# Altium footprint library inductors.PcbLib: 86 footprints (part 4 of 6)
Each footprint in its own frame and in the unit in brackets; x right, y up, seen from the top. Pads: shape width x height; smd on the part's side, far side on the other; paste and mask are expansions set on the pad; w line width, h text height; cw(c..) or ccw(c..) is an arc to the next point about the centre after c.
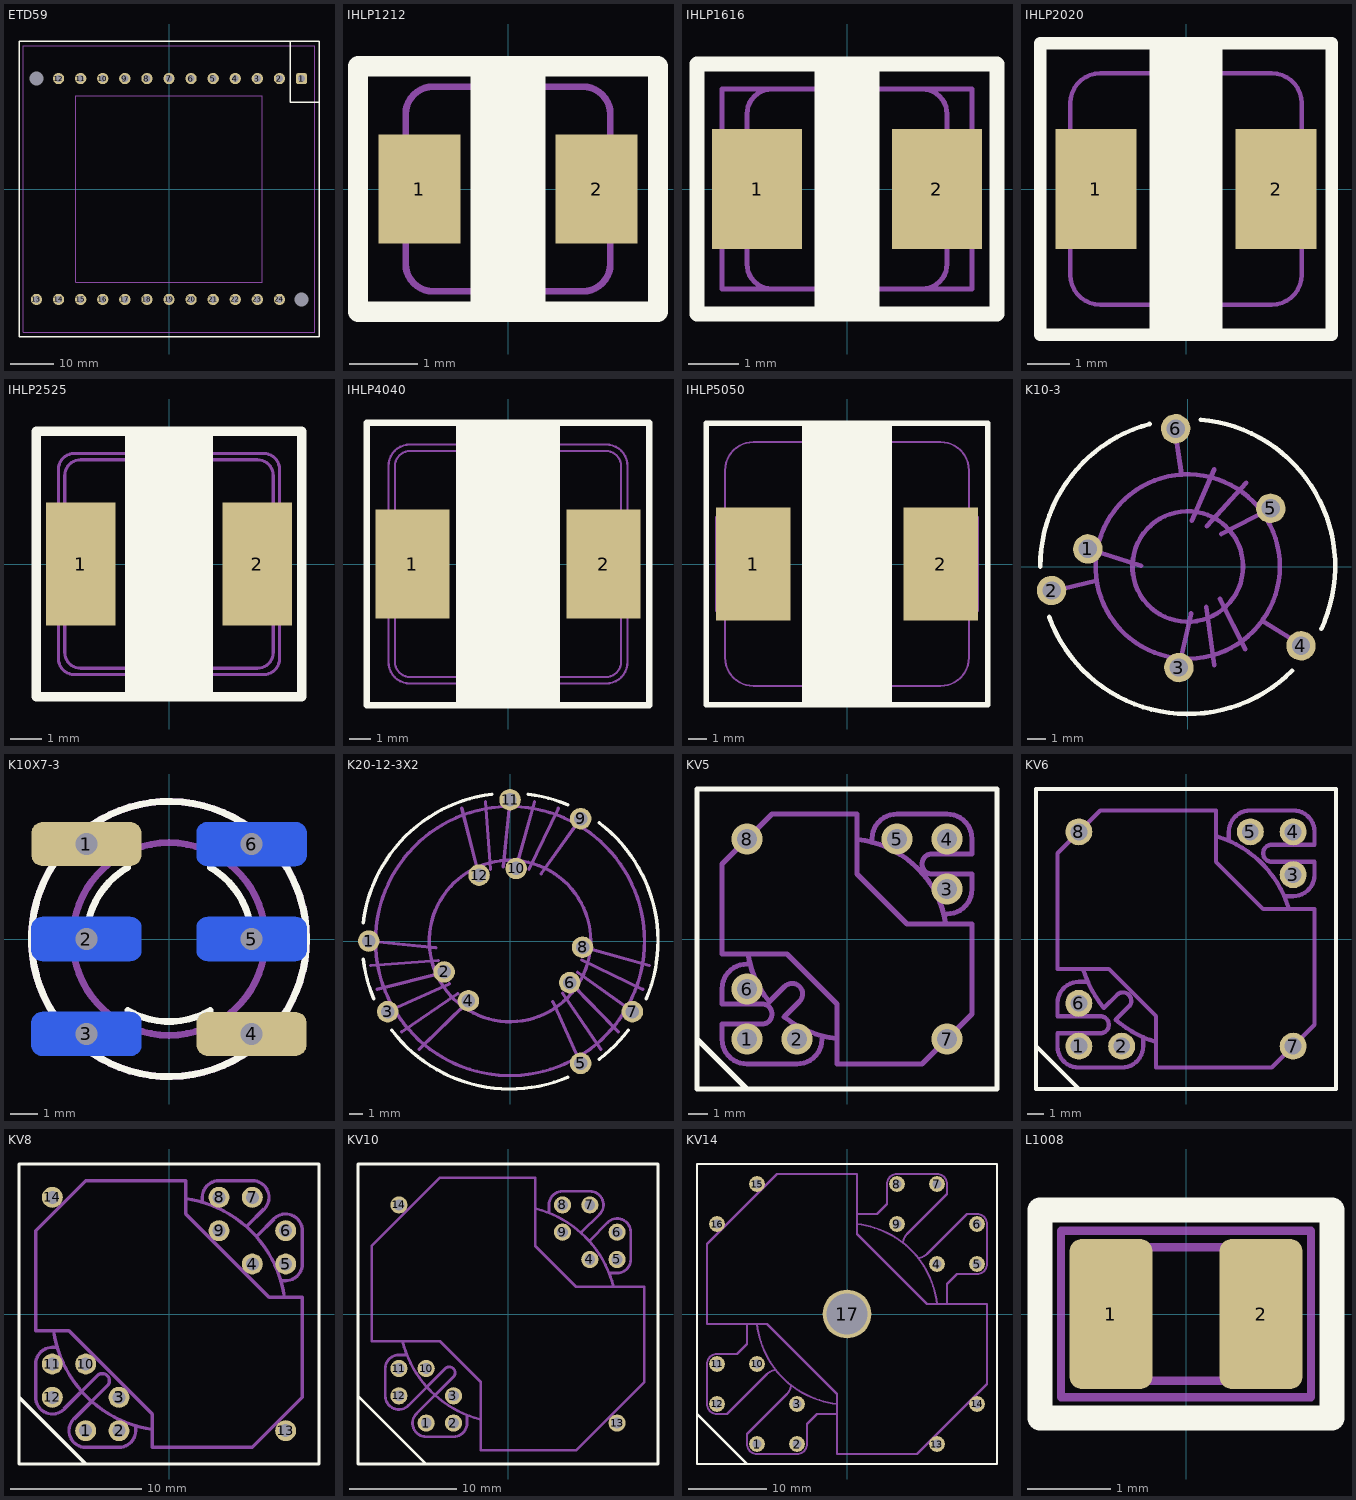
[diagram p3: the footprints below, top view; thin cyan lines are the x and y axes]

## ETD59 [mm]
height 50
pads (26):
  rrect50% 2.6x2.6 hole 1.6: 1(30.48,25.4)
  round 2.6 hole 1.6: 2(25.4,25.4) 3(20.32,25.4) 4(15.24,25.4) 5(10.16,25.4) 6(5.08,25.4) 7(0,25.4) 8(-5.08,25.4) 9(-10.16,25.4) 10(-15.24,25.4) 11(-20.32,25.4) 12(-25.4,25.4) 13(-30.48,-25.4) 14(-25.4,-25.4) 15(-20.32,-25.4) 16(-15.24,-25.4) 17(-10.16,-25.4) 18(-5.08,-25.4) 19(0,-25.4) 20(5.08,-25.4) 21(10.16,-25.4) 22(15.24,-25.4) 23(20.32,-25.4) 24(25.4,-25.4)
  round 0 hole 3.2 unplated mask+1.9: 25(-30.48,25.4) 26(30.48,-25.4)
Top Overlay:
  lines w0.3: 27.94,34 27.94,20 34.5,20 ; -34.5,-34 34.5,-34 34.5,34 -34.5,34 -34.5,-34
Mechanical 1:
  lines w0.1: -33.5,-33 33.5,-33 33.5,33 -33.5,33 -33.5,-33 ; -21.5,-21.5 21.5,-21.5 21.5,21.5 -21.5,21.5 -21.5,-21.5
3D body: height 49.99, standoff 7.01, extent -21.476,-21.5 21.5,21.5
3D body: height 40, standoff 15, extent -33.5,-33 33.5,33
3D body: height 15, standoff 5, extent -33.5,-33 33.5,-21.5
3D body: height 5.5, standoff -4.5, extent -30.976,-25.899 -29.98,-24.901
3D body: height 5, standoff 0.1, extent -33.5,-33 -32,-29
3D body: height 5, standoff 0.1, extent 28,-28 33,-21.5
3D body: height 5.5, standoff -4.5, extent -25.896,-25.899 -24.9,-24.901
3D body: height 5.5, standoff -4.5, extent -20.816,-25.899 -19.82,-24.901
3D body: height 5.5, standoff -4.5, extent -15.736,-25.899 -14.74,-24.901
3D body: height 5.5, standoff -4.5, extent -10.656,-25.899 -9.66,-24.901
3D body: height 5.5, standoff -4.5, extent -5.576,-25.899 -4.58,-24.901
3D body: height 5.5, standoff -4.5, extent -0.496,-25.899 0.5,-24.901
3D body: height 5.5, standoff -4.5, extent 4.584,-25.899 5.58,-24.901
3D body: height 5.5, standoff -4.5, extent 9.664,-25.899 10.66,-24.901
3D body: height 5.5, standoff -4.5, extent 14.744,-25.899 15.74,-24.901
3D body: height 5.5, standoff -4.5, extent 19.824,-25.899 20.82,-24.901
3D body: height 5.5, standoff -4.5, extent 24.904,-25.899 25.9,-24.901
3D body: height 5.5, standoff -4.5, extent -25.9,24.901 -24.904,25.899
3D body: height 5.5, standoff -4.5, extent -20.82,24.901 -19.824,25.899
3D body: height 5.5, standoff -4.5, extent -15.74,24.901 -14.744,25.899
3D body: height 5.5, standoff -4.5, extent -10.66,24.901 -9.664,25.899
3D body: height 5.5, standoff -4.5, extent -5.58,24.901 -4.584,25.899
3D body: height 5.5, standoff -4.5, extent -0.5,24.901 0.496,25.899
3D body: height 5.5, standoff -4.5, extent 4.58,24.901 5.576,25.899
3D body: height 5.5, standoff -4.5, extent 9.66,24.901 10.656,25.899
3D body: height 5.5, standoff -4.5, extent 14.74,24.901 15.736,25.899
3D body: height 5.5, standoff -4.5, extent 19.82,24.901 20.816,25.899
3D body: height 5.5, standoff -4.5, extent 24.9,24.901 25.896,25.899
3D body: height 5, standoff 0.1, extent -33,21.5 -28,28
3D body: height 5, standoff 0.1, extent 32,29 33.5,33
3D body: height 5.5, standoff -4.5, extent 29.98,24.901 30.976,25.899
3D body: height 15, standoff 5, extent -33.5,21.5 33.5,33

## IHLP1212 [mm]
height 2
pads (2):
  rect 1.2x1.6 smd: 1(-1.3,0) 2(1.3,0)
Top Overlay:
  lines w0.3: -0.4,-1.8 -0.4,1.8 ; -0.2,-1.8 -0.2,1.8 ; 0.1,-1.8 0.1,1.8 ; 0.4,-1.8 0.4,1.8 ; -2.2,-1.8 2.2,-1.8 2.2,1.8 -2.2,1.8 -2.2,-1.8
Mechanical 1:
  lines w0.1: -1.5,-0.6 -1.7,-0.6 -1.7,0.6 -1.5,0.6 ; 1.5,-0.6 1.7,-0.6 1.7,0.6 1.5,0.6 ; -1.5,-1.1 ccw(c-1.1,-1.1) -1.1,-1.5 1.1,-1.5 ccw(c1.1,-1.1) 1.5,-1.1 1.5,1.1 ccw(c1.1,1.1) 1.1,1.5 -1.1,1.5 ccw(c-1.1,1.1) -1.5,1.1 -1.5,-1.1
Mechanical 5:
  lines w0.1: -2.2,-1.8 -2.2,1.8 2.2,1.8 2.2,-1.8 -2.2,-1.8
  text ".Designator" at -1.5,-0.8 h1.5
Mechanical 6:
  lines w0.1: -2.2,-1.8 2.2,-1.8 2.2,1.8 -2.2,1.8 -2.2,-1.8
  text ".Comment" at -1.5,-0.8 h1.5
3D body: height 1.4, standoff 0, extent 1.4,-0.7 1.6,0.7
3D body: height 2, standoff 0.05, extent -1.5,-1.5 1.5,1.5
3D body: height 1.4, standoff 0, extent -1.6,-0.7 -1.4,0.7

## IHLP1616 [mm] "0420"
height 2
pads (2):
  rect 1.8x2.4 smd: 1(-1.8,0) 2(1.8,0)
Top Overlay:
  lines w0.3: -0.5,-2.5 -0.5,2.5 ; -0.25,-2.5 -0.25,2.5 ; 0,-2.5 0,2.5 ; 0.25,-2.5 0.25,2.5 ; 0.5,-2.5 0.5,2.5 ; -3,-2.5 -3,2.5 3,2.5 3,-2.5 -3,-2.5
Mechanical 1:
  lines w0.1: -2,-1 -2.2,-1 -2.2,1 -2,1 ; 2,-1 2.2,-1 2.2,1 2,1 ; -2,-1.5 ccw(c-1.5,-1.5) -1.5,-2 1.5,-2 ccw(c1.5,-1.5) 2,-1.5 2,1.5 ccw(c1.5,1.5) 1.5,2 -1.5,2 ccw(c-1.5,1.5) -2,1.5 -2,-1.5
Mechanical 5:
  lines w0.1: -2.5,-2 2.5,-2 2.5,2 -2.5,2 -2.5,-2
  text ".Designator" at -2,-0.8 h1.5
Mechanical 6:
  lines w0.1: -2.5,-2 -2.5,2 2.5,2 2.5,-2 -2.5,-2
  text ".Comment" at -2,-0.8 h1.5
3D body: height 1.4, standoff 0, extent -2.2,-1 -2,1
3D body: height 1.4, standoff 0, extent 2,-1 2.2,1
3D body: height 2, standoff 0, extent -2,-2 2,2

## IHLP2020 [mm] "0530"
height 3
pads (2):
  rect 1.9x2.8 smd: 1(-2.1,0) 2(2.1,0)
Top Overlay:
  lines w0.3: -0.7,-3.4 -0.7,3.4 ; -0.4,-3.4 -0.4,3.4 ; -0.1,-3.4 -0.1,3.4 ; 0.2,-3.4 0.2,3.4 ; 0.4,-3.4 0.4,3.4 ; 0.7,-3.4 0.7,3.4 ; -3.4,-3.4 3.4,-3.4 3.4,3.4 -3.4,3.4 -3.4,-3.4
Mechanical 1:
  lines w0.1: -2.7,-1 -2.9,-1 -2.9,1 -2.7,1 ; 2.7,-1 2.9,-1 2.9,1 2.7,1 ; -2.7,-2 ccw(c-2,-2) -2,-2.7 2,-2.7 ccw(c2,-2) 2.7,-2 2.7,2 ccw(c2,2) 2,2.7 -2,2.7 ccw(c-2,2) -2.7,2 -2.7,-2
Mechanical 5:
  lines w0.1: -2.7,-2 ccw(c-2,-2) -2,-2.7 2,-2.7 ccw(c2,-2) 2.7,-2 2.7,2 ccw(c2,2) 2,2.7 -2,2.7 ccw(c-2,2) -2.7,2 -2.7,-2
  text ".Designator" at -2,-0.8 h1.5
Mechanical 6:
  lines w0.1: -2.7,-2 ccw(c-2,-2) -2,-2.7 2,-2.7 ccw(c2,-2) 2.7,-2 2.7,2 ccw(c2,2) 2,2.7 -2,2.7 ccw(c-2,2) -2.7,2 -2.7,-2
  text ".Comment" at -2,-0.8 h1.5
3D body: height 1.6, standoff 0, extent 2.6,-1.3 2.9,1.3
3D body: height 1.6, standoff 0, extent -2.9,-1.3 -2.6,1.3
3D body: height 3, standoff 0.2, extent -2.706,-2.706 2.706,2.706

## IHLP2525 [mm] "0630"
height 3
pads (2):
  rect 2.2x3.9 smd paste-2: 1(-2.8,0) 2(2.8,0)
Top Overlay:
  lines w0.3: -1.25,-4.2 -1.25,4.2 ; -1,-4.2 -1,4.2 ; -0.75,-4.2 -0.75,4.2 ; -0.5,-4.2 -0.5,4.2 ; -0.25,-4.2 -0.25,4.2 ; 0,-4.2 0,4.2 ; 0.25,-4.2 0.25,4.2 ; 0.5,-4.2 0.5,4.2 ; 0.75,-4.2 0.75,4.2 ; 1,-4.2 1,4.2 ; 1.25,-4.2 1.25,4.2 ; -4.2,-4.2 4.2,-4.2 4.2,4.2 -4.2,4.2 -4.2,-4.2
Top Paste:
  rectangle: -3.9,0.2 -1.7,1.9
  rectangle: -3.9,-1.9 -1.7,-0.2
  rectangle: 1.7,-1.9 3.9,-0.2
  rectangle: 1.7,0.2 3.9,1.9
Mechanical 1:
  lines w0.1: -3.3,-1.6 -3.5,-1.6 -3.5,1.6 -3.3,1.6 ; 3.3,-1.6 3.5,-1.6 3.5,1.6 3.3,1.6 ; -3.3,-2.8 ccw(c-2.8,-2.8) -2.8,-3.3 2.8,-3.3 ccw(c2.8,-2.8) 3.3,-2.8 3.3,2.8 ccw(c2.8,2.8) 2.8,3.3 -2.8,3.3 ccw(c-2.8,2.8) -3.3,2.8 -3.3,-2.8
Mechanical 5:
  lines w0.1: -3.5,-3 ccw(c-3,-3) -3,-3.5 3,-3.5 ccw(c3,-3) 3.5,-3 3.5,3 ccw(c3,3) 3,3.5 -3,3.5 ccw(c-3,3) -3.5,3 -3.5,-3
  text ".Designator" at -2,-0.8 h1.5
Mechanical 6:
  lines w0.1: -3.5,-3 ccw(c-3,-3) -3,-3.5 3,-3.5 ccw(c3,-3) 3.5,-3 3.5,3 ccw(c3,3) 3,3.5 -3,3.5 ccw(c-3,3) -3.5,3 -3.5,-3
  text ".Comment" at -2,-0.8 h1.5
3D body: height 1.6, standoff 0, extent 3.3,-1.6 3.5,1.6
3D body: height 3, standoff 0, extent -3.3,-3.3 3.3,3.3
3D body: height 1.6, standoff 0, extent -3.5,-1.6 -3.3,1.6

## IHLP4040 [mm]
height 4
pads (2):
  rect 3.4x5 smd paste-2: 1(-4.4,0) 2(4.4,0)
Top Overlay:
  lines w0.3: -2.25,-6.5 -2.25,6.5 ; -2,-6.5 -2,6.5 ; -1.75,-6.5 -1.75,6.5 ; -1.5,-6.5 -1.5,6.5 ; -1.25,-6.5 -1.25,6.5 ; -1,-6.5 -1,6.5 ; -0.75,-6.5 -0.75,6.5 ; -0.5,-6.5 -0.5,6.5 ; -0.25,-6.5 -0.25,6.5 ; 0,-6.5 0,6.5 ; 0.25,-6.5 0.25,6.5 ; 0.5,-6.5 0.5,6.5 ; 0.75,-6.5 0.75,6.5 ; 1,-6.5 1,6.5 ; 1.25,-6.5 1.25,6.5 ; 1.5,-6.5 1.5,6.5 ; 1.75,-6.5 1.75,6.5 ; 2,-6.5 2,6.5 ; 2.25,-6.5 2.25,6.5 ; -6.5,-6.5 6.5,-6.5 6.5,6.5 -6.5,6.5 -6.5,-6.5
Top Paste:
  rectangle: 2.7,0.2 6.1,2.5
  rectangle: 2.7,-2.5 6.1,-0.2
  rectangle: -6.1,-2.5 -2.7,-0.2
  rectangle: -6.1,0.2 -2.7,2.5
Mechanical 1:
  lines w0.1: -5.2,-2.3 -5.5,-2.3 -5.5,2.3 -5.2,2.3 ; 5.2,-2.3 5.5,-2.3 5.5,2.3 5.2,2.3 ; -5.2,-4.5 ccw(c-4.5,-4.5) -4.5,-5.2 4.5,-5.2 ccw(c4.5,-4.5) 5.2,-4.5 5.2,4.5 ccw(c4.5,4.5) 4.5,5.2 -4.5,5.2 ccw(c-4.5,4.5) -5.2,4.5 -5.2,-4.5
Mechanical 5:
  lines w0.1: -5.5,-4.5 ccw(c-4.5,-4.5) -4.5,-5.5 4.5,-5.5 ccw(c4.5,-4.5) 5.5,-4.5 5.5,4.5 ccw(c4.5,4.5) 4.5,5.5 -4.5,5.5 ccw(c-4.5,4.5) -5.5,4.5 -5.5,-4.5
  text ".Designator" at -2,-0.8 h1.5
Mechanical 6:
  lines w0.1: -5.5,-4.5 ccw(c-4.5,-4.5) -4.5,-5.5 4.5,-5.5 ccw(c4.5,-4.5) 5.5,-4.5 5.5,4.5 ccw(c4.5,4.5) 4.5,5.5 -4.5,5.5 ccw(c-4.5,4.5) -5.5,4.5 -5.5,-4.5
  text ".Comment" at -2,-0.8 h1.5
3D body: height 2.5, standoff 1.6, extent 5.2,-4.3 5.5,4.3
3D body: height 2.5, standoff 1.6, extent -5.5,-4.3 -5.2,4.3
3D body: height 1.6, standoff 0, extent 5.2,-2.3 5.5,2.3
3D body: height 4, standoff 0, extent -5.2,-5.2 5.2,5.2
3D body: height 1.6, standoff 0, extent -5.5,-2.3 -5.2,2.3

## IHLP5050 [mm]
height 6.5
pads (2):
  rect 4x6 smd paste-3: 1(-5,0) 2(5,0)
Top Overlay:
  lines w0.3: -2.25,-7.5 -2.25,7.5 ; -2,-7.5 -2,7.5 ; -1.75,-7.5 -1.75,7.5 ; -1.5,-7.5 -1.5,7.5 ; -1.25,-7.5 -1.25,7.5 ; -1,-7.5 -1,7.5 ; -0.75,-7.5 -0.75,7.5 ; -0.5,-7.5 -0.5,7.5 ; -0.25,-7.5 -0.25,7.5 ; 0,-7.5 0,7.5 ; 0.25,-7.5 0.25,7.5 ; 0.5,-7.5 0.5,7.5 ; 0.75,-7.5 0.75,7.5 ; 1,-7.5 1,7.5 ; 1.25,-7.5 1.25,7.5 ; 1.5,-7.5 1.5,7.5 ; 1.75,-7.5 1.75,7.5 ; 2,-7.5 2,7.5 ; 2.25,-7.5 2.25,7.5 ; -7.5,-7.5 7.5,-7.5 7.5,7.5 -7.5,7.5 -7.5,-7.5
Top Paste:
  rectangle: -7,1.2 -3,3
  rectangle: -7,-0.9 -3,0.9
  rectangle: -7,-3 -3,-1.2
  rectangle: 3,-3 7,-1.2
  rectangle: 3,-0.9 7,0.9
  rectangle: 3,1.2 7,3
Mechanical 1:
  lines w0.1: -6.5,-2.5 -7,-2.5 -7,2.5 -6.5,2.5 ; 6.5,-2.5 7,-2.5 7,2.5 6.5,2.5 ; -6.5,-5 ccw(c-5,-5) -5,-6.5 5,-6.5 ccw(c5,-5) 6.5,-5 6.5,5 ccw(c5,5) 5,6.5 -5,6.5 ccw(c-5,5) -6.5,5 -6.5,-5
3D body: height 2.5, standoff 1.6, extent 6.5,-4.3 7,4.3
3D body: height 2.5, standoff 1.6, extent -7,-4.3 -6.5,4.3
3D body: height 1.6, standoff 0, extent 6.5,-2.5 7,2.5
3D body: height 6.3, standoff 0, extent -6.5,-6.5 6.5,6.5
3D body: height 1.6, standoff 0, extent -7,-2.5 -6.5,2.5

## K10-3 [mm]
pads (6):
  round 1.6 hole 1: 1(-5.416,0.955) 2(-7.386,-1.302) 3(-0.479,-5.479) 4(6.144,-4.302) 5(4.505,3.155) 6(-0.654,7.471)
Top Overlay:
  lines w0.25: -8,0 cw(c0,0) -2.071,7.727 ; -7.518,-2.736 ccw(c0,0) 5.657,-5.657 ; 0.697,7.97 cw(c0,0) 7.25,-3.381
Mechanical 1:
  circle w0.25: c0,0 r3
  circle w0.25: c0,0 r5
  lines w0.25: -7.358,-1.344 -4.965,-0.772 ; -5.416,0.955 -2.531,0.04 ; -0.697,7.447 -0.337,5.014 ; -0.479,-5.479 0.181,-2.525 ; 0.221,2.474 1.433,5.276 ; 1.012,-2.197 1.44,-5.346 ; 1.032,2.187 3.17,4.539 ; 1.753,-1.76 3.121,-4.489 ; 1.818,1.762 4.505,3.155 ; 4.057,-2.965 6.153,-4.252

## K10X7-3 [mm]
pads (6):
  rrect50% 4x1.6 on Top hole 0.8: 1(-3,3.45) 4(3,-3.45)
  rrect50% 4x1.6 on Bottom hole 0.8: 2(-3,0) 3(-3,-3.45) 5(3,0) 6(3,3.45)
Top Overlay:
  circle w0.25: c0,0 r5
  lines w0.25: -3,0 cw(c0,0) -1.5,2.598 ; -1.5,-2.598 ccw(c0,0) 1.5,-2.598 ; 1.5,2.598 cw(c0,0) 3,0
Mechanical 1:
  circle w0.25: c0,0 r3.5
  circle w0.25: c0,0 r5

## K20-12-3X2 [mm]
pads (12):
  round 1.6 hole 1: 1(-10.5,0) 2(-4.9,-2.3) 3(-9.093,-5.25) 4(-3.094,-4.442) 5(5.25,-9.093) 6(4.442,-3.094) 7(9.093,-5.25) 8(5.394,-0.458) 9(5.25,9.093) 10(0.458,5.394) 11(0,10.5) 12(-2.3,4.9)
Top Overlay:
  lines w0.25: -10.918,-1.341 ccw(c0,0) -10.126,-4.298 ; -10.918,1.341 cw(c0,0) -1.341,10.918 ; -8.785,-6.62 ccw(c0,0) 4.298,-10.126 ; 1.341,10.918 cw(c0,0) 4.298,10.126 ; 6.62,-8.785 ccw(c0,0) 8.785,-6.62 ; 6.62,8.785 cw(c0,0) 10.126,-4.298
Mechanical 1:
  circle w0.25: c0,0 r10
  circle w0.25: c0,0 r6
  lines w0.25: -10.5,0 -5.5,-0.5 ; -10.34,-1.823 -5.33,-1.447 ; -9.867,-3.591 -4.997,-2.351 ; -9.093,-5.25 -4.513,-3.183 ; -8.043,-6.749 -3.892,-3.918 ; -6.749,-8.043 -3.152,-4.535 ; -3.591,9.867 -2.351,4.997 ; -1.823,10.34 -1.447,5.33 ; -0.5,5.5 0,10.5 ; 0.463,5.503 1.823,10.34 ; 1.411,5.339 3.591,9.867 ; 2.317,5.013 5.25,9.093 ; 3.183,-4.513 5.25,-9.093 ; 3.918,-3.892 6.749,-8.043 ; 4.535,-3.152 8.043,-6.749 ; 5.013,-2.317 9.093,-5.25 ; 5.339,-1.411 9.867,-3.591 ; 5.503,-0.463 10.34,-1.823

## KV5 [mm]
pads (8):
  round 1.6 hole 1: 1(-5.08,-5.08) 2(-2.54,-5.08) 3(5.08,2.54) 4(5.08,5.08) 5(2.54,5.08) 6(-5.08,-2.54) 7(5.08,-5.08) 8(-5.08,5.08)
Top Overlay:
  lines w0.254: -7.62,-5.08 -5.08,-7.62 ; -7.62,-7.62 7.62,-7.62 7.62,2.54 7.62,7.62 -7.62,7.62 -7.62,-2.54 -7.62,-7.62
Mechanical 1:
  lines w0.254: -5.08,-1.27 ccw(c-5.08,-2.54) -6.35,-2.54 -6.35,-3.302 -4.318,-3.302 cw(c-4.318,-3.81) -4.318,-4.318 -6.35,-4.318 -6.35,-5.08 ccw(c-5.08,-5.08) -5.08,-6.35 -2.54,-6.35 ccw(c-2.54,-5.08) -1.27,-5.08 ; -5.022,-0.768 ccw(c0,0) -3.942,-3.204 ; -3.937,-3.175 -3.175,-2.413 cw(c-2.794,-2.794) -2.413,-3.175 -3.175,-3.937 ; -3.19,-3.953 ccw(c0,0) -0.54,-5.051 ; 0.54,5.051 cw(c0,0) 5.013,0.821 ; 1.27,5.08 cw(c2.54,5.08) 2.54,6.35 5.08,6.35 cw(c5.08,5.08) 6.35,5.08 6.35,4.318 4.318,4.318 ccw(c4.318,3.81) 4.318,3.302 6.35,3.302 6.35,2.54 cw(c5.08,2.54) 5.08,1.27 ; -6.35,-0.762 -3.048,-0.762 -0.508,-3.302 -0.508,-6.35 3.81,-6.35 6.35,-3.81 6.35,0.762 3.048,0.762 0.508,3.302 0.508,6.35 -3.81,6.35 -6.35,3.81 -6.35,-0.762

## KV6 [mm]
pads (8):
  round 1.6 hole 1: 1(-6.35,-6.35) 2(-3.81,-6.35) 3(6.35,3.81) 4(6.35,6.35) 5(3.81,6.35) 6(-6.35,-3.81) 7(6.35,-6.35) 8(-6.35,6.35)
Top Overlay:
  lines w0.254: -8.89,-6.35 -6.35,-8.89 ; -8.89,-8.89 -8.89,-3.81 -8.89,8.89 8.89,8.89 8.89,1.27 8.89,-8.89 6.35,-8.89 -8.89,-8.89
Mechanical 1:
  lines w0.254: -6.095,-1.782 ccw(c0,0) -4.864,-4.082 ; -5.842,-2.54 -6.35,-2.54 ccw(c-6.35,-3.81) -7.62,-3.81 -7.62,-4.572 -5.08,-4.572 cw(c-5.08,-5.08) -5.08,-5.588 -7.62,-5.588 -7.62,-6.35 ccw(c-6.35,-6.35) -6.35,-7.62 -3.81,-7.62 ccw(c-3.81,-6.35) -2.54,-6.35 -2.54,-5.842 ; -4.84,-4.06 -4.09,-3.31 cw(c-3.74,-3.66) -3.337,-3.947 ; -4.174,-4.785 ccw(c0,0) -1.782,-6.095 ; -4.14,-4.76 -3.34,-3.96 ; 1.782,6.095 cw(c0,0) 6.095,1.782 ; 2.54,5.842 2.54,6.35 cw(c3.81,6.35) 3.81,7.62 6.35,7.62 cw(c6.35,6.35) 7.62,6.35 7.62,5.588 5.08,5.588 ccw(c5.08,5.08) 5.08,4.572 7.62,4.572 7.62,3.81 cw(c6.35,3.81) 6.35,2.54 5.842,2.54 ; -7.62,-1.778 -7.62,5.08 -5.08,7.62 1.778,7.62 1.778,4.572 4.572,1.778 7.62,1.778 7.62,-5.08 5.08,-7.62 -1.778,-7.62 -1.778,-4.572 -4.572,-1.778 -7.62,-1.778

## KV8 [mm]
pads (14):
  round 1.6 hole 1: 1(-6.35,-8.89) 2(-3.81,-8.89) 3(-3.81,-6.35) 4(6.35,3.81) 5(8.89,3.81) 6(8.89,6.35) 7(6.35,8.89) 8(3.81,8.89) 9(3.81,6.35) 10(-6.35,-3.81) 11(-8.89,-3.81) 12(-8.89,-6.35) 13(8.89,-8.89) 14(-8.89,8.89)
Top Overlay:
  lines w0.254: -11.43,-6.35 -6.35,-11.43 ; -11.43,-11.43 11.43,-11.43 11.43,11.43 -11.43,11.43 -11.43,-11.43
Mechanical 1:
  lines w0.254: -8.799,-1.268 ccw(c0,0) -1.268,-8.799 ; -8.509,-2.54 -8.89,-2.54 ccw(c-8.89,-3.81) -10.16,-3.81 -10.16,-6.35 ccw(c-8.89,-6.35) -7.992,-7.248 ; -8.001,-7.239 -5.461,-4.699 cw(c-5.08,-5.08) -4.699,-5.461 -7.239,-8.001 ; -7.248,-7.992 ccw(c-6.35,-8.89) -6.35,-10.16 -3.81,-10.16 ccw(c-3.81,-8.89) -2.54,-8.89 -2.54,-8.509 ; 1.268,8.799 cw(c0,0) 8.799,1.268 ; 2.54,8.509 2.54,8.89 cw(c3.81,8.89) 3.81,10.16 6.35,10.16 cw(c6.35,8.89) 7.248,7.992 ; 5.969,6.731 7.239,8.001 ; 6.731,5.969 8.001,7.239 ; 7.992,7.248 cw(c8.89,6.35) 10.16,6.35 10.16,3.81 cw(c8.89,3.81) 8.89,2.54 8.509,2.54 ; -10.16,-1.27 -10.16,6.35 -6.35,10.16 1.27,10.16 1.27,7.62 7.62,1.27 10.16,1.27 10.16,-6.35 6.35,-10.16 -1.27,-10.16 -1.27,-7.62 -7.62,-1.27 -10.16,-1.27

## KV10 [mm]
pads (14):
  round 1.6 hole 1: 1(-7.62,-10.16) 2(-5.08,-10.16) 3(-5.08,-7.62) 4(7.62,5.08) 5(10.16,5.08) 6(10.16,7.62) 7(7.62,10.16) 8(5.08,10.16) 9(5.08,7.62) 10(-7.62,-5.08) 11(-10.16,-5.08) 12(-10.16,-7.62) 13(10.16,-10.16) 14(-10.16,10.16)
Top Overlay:
  lines w0.254: -13.97,-7.62 -7.62,-13.97 ; -13.97,-13.97 13.97,-13.97 13.97,13.97 -13.97,13.97 -13.97,-13.97
Mechanical 1:
  lines w0.254: -9.827,-2.578 ccw(c0,0) -2.612,-9.818 ; -9.525,-3.81 -10.16,-3.81 ccw(c-10.16,-5.08) -11.43,-5.08 -11.43,-7.62 ccw(c-10.16,-7.62) -9.262,-8.518 ; -9.271,-8.509 -5.842,-5.08 cw(c-5.461,-5.461) -5.08,-5.842 -8.509,-9.271 ; -8.518,-9.262 ccw(c-7.62,-10.16) -7.62,-11.43 -5.08,-11.43 ccw(c-5.08,-10.16) -3.81,-10.16 -3.81,-9.525 ; 2.612,9.818 cw(c0,0) 9.827,2.578 ; 3.81,9.525 3.81,10.16 cw(c5.08,10.16) 5.08,11.43 7.62,11.43 cw(c7.62,10.16) 8.518,9.262 ; 6.858,7.62 8.509,9.271 ; 7.62,6.858 9.271,8.509 ; 9.262,8.518 cw(c10.16,7.62) 11.43,7.62 11.43,5.08 cw(c10.16,5.08) 10.16,3.81 9.525,3.81 ; -12.7,-2.54 -6.35,-2.54 -2.54,-6.35 -2.54,-12.7 6.35,-12.7 12.7,-6.35 12.7,2.54 6.35,2.54 2.54,6.35 2.54,12.7 -6.35,12.7 -12.7,6.35 -12.7,-2.54

## KV14 [mm]
pads (17):
  round 2 hole 1.2: 1(-11.43,-16.51) 2(-6.35,-16.51) 3(-6.35,-11.43) 4(11.43,6.35) 5(16.51,6.35) 6(16.51,11.43) 7(11.43,16.51) 8(6.35,16.51) 9(6.35,11.43) 10(-11.43,-6.35) 11(-16.51,-6.35) 12(-16.51,-11.43) 13(11.43,-16.51) 14(16.51,-11.43) 15(-11.43,16.51) 16(-16.51,11.43)
  round 6.2 hole 5.2: 17(0,0)
Top Overlay:
  lines w0.254: -19.05,-12.7 -12.7,-19.05 ; -19.05,-19.05 -19.05,19.05 19.05,19.05 19.05,-19.05 -19.05,-19.05
Mechanical 1:
  lines w0.254: -12.7,-1.27 -12.7,-3.81 -13.97,-5.08 -16.51,-5.08 ccw(c-16.51,-6.35) -17.78,-6.35 -17.78,-11.43 ccw(c-16.51,-11.43) -16.51,-12.7 -15.24,-12.7 -10.16,-7.62 cw(c-8.89,-8.89) -9.143,-7.112 ; -11.431,-1.262 ccw(c0,0) -1.262,-11.431 ; -7.112,-9.143 cw(c-8.89,-8.89) -7.62,-10.16 -12.7,-15.24 -12.7,-16.51 ccw(c-11.43,-16.51) -11.43,-17.78 -6.35,-17.78 ccw(c-6.35,-16.51) -5.08,-16.51 -5.08,-13.97 -3.81,-12.7 -1.27,-12.7 ; 1.262,11.431 cw(c0,0) 11.431,1.262 ; 1.27,12.7 3.81,12.7 5.08,13.97 5.08,16.51 cw(c6.35,16.51) 6.35,17.78 11.43,17.78 cw(c11.43,16.51) 12.7,16.51 12.7,15.24 7.62,10.16 ccw(c8.89,8.89) 7.112,9.143 ; 9.143,7.112 ccw(c8.89,8.89) 10.16,7.62 15.24,12.7 16.51,12.7 cw(c16.51,11.43) 17.78,11.43 17.78,6.35 cw(c16.51,6.35) 16.51,5.08 13.97,5.08 12.7,3.81 12.7,1.27 ; -17.78,-1.27 -17.78,8.89 -8.89,17.78 1.27,17.78 1.27,10.16 10.16,1.27 17.78,1.27 17.78,-8.89 8.89,-17.78 -1.27,-17.78 -1.27,-10.16 -10.16,-1.27 -17.78,-1.27

## L1008 [mm]
height 1.4
pads (2):
  rrect30% 1x1.8 smd: 1(-0.9,0) 2(0.9,0)
Top Overlay:
  lines w0.3: -1.75,-1.25 1.75,-1.25 1.75,1.25 -1.75,1.25 -1.75,-1.25
Mechanical 1:
  lines w0.1: -0.5,-0.8 -0.5,0.8 ; 0.5,-0.8 0.5,0.8 ; -1.1,-0.8 -1.1,0.8 1.1,0.8 1.1,-0.8 -1.1,-0.8
Mechanical 5:
  lines w0.1: -1.5,-1 -1.5,1 1.5,1 1.5,-1 -1.5,-1
  text ".Designator" at -1,-0.5 h1
Mechanical 6:
  lines w0.1: -1.5,-1 1.5,-1 1.5,1 -1.5,1 -1.5,-1
  text ".Comment" at -1,-0.5 h1
3D body: height 1.2, standoff 0, extent 0.6,-0.7 1.1,0.7
3D body: height 1.2, standoff 0, extent -1.1,-0.7 -0.6,0.7
3D body: height 1.3, standoff 0.4, extent -0.6,-0.8 0.6,0.8